# EAGLE library part AT-XMEGA-XXA4-AU (library harp timestamp generator)
ATxMega a4 Serie
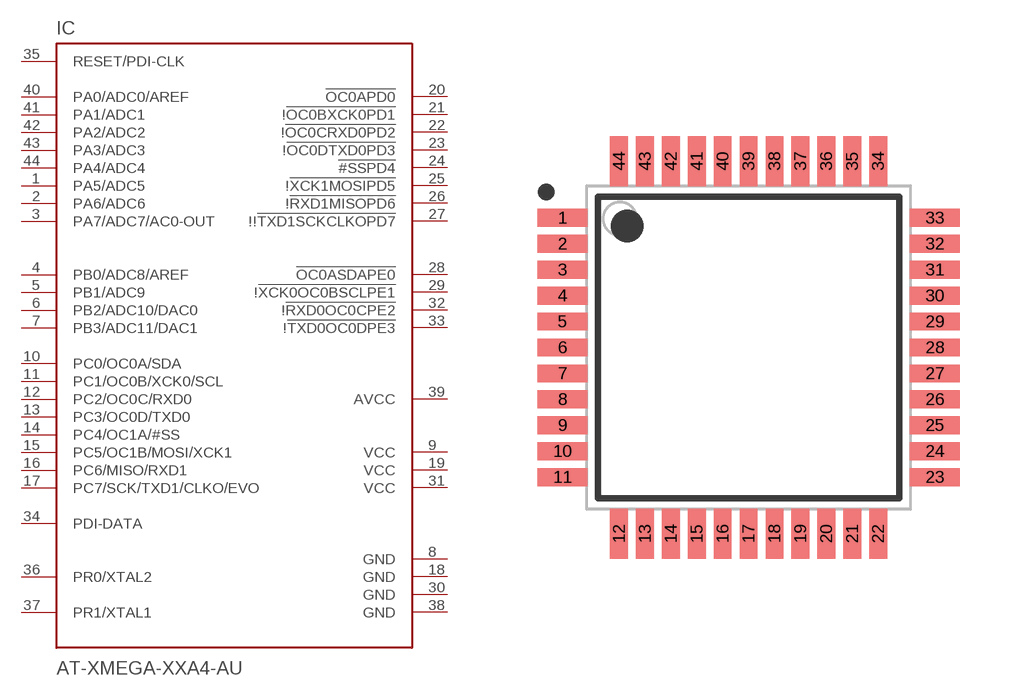
[diagram p5: symbol with the pads of QFP80P1200X1200X120-44N; footprint QFP80P1200X1200X120-44N]

Designator prefix IC

## AT-XMEGA-XXA4-AU  [QFP80P1200X1200X120-44N]
1  PA5/ADC5
2  PA6/ADC6
3  PA7/ADC7/AC0-OUT
4  PB0/ADC8/AREF
5  PB1/ADC9
6  PB2/ADC10/DAC0
7  PB3/ADC11/DAC1
8  GND  pwr
9  VCC  pwr
10  PC0/OC0A/SDA
11  PC1/OC0B/XCK0/SCL
12  PC2/OC0C/RXD0
13  PC3/OC0D/TXD0
14  PC4/OC1A/#SS
15  PC5/OC1B/MOSI/XCK1
16  PC6/MISO/RXD1
17  PC7/SCK/TXD1/CLKO/EVO
18  GND  pwr
19  VCC  pwr
20  !OC0APD0
21  !!OC0BXCK0PD1
22  !!OC0CRXD0PD2
23  !!OC0DTXD0PD3
24  !#SSPD4
25  !!XCK1MOSIPD5
26  !!RXD1MISOPD6
27  !!!TXD1SCKCLKOPD7
28  !OC0ASDAPE0
29  !!XCK0OC0BSCLPE1
30  GND  pwr
31  VCC  pwr
32  !!RXD0OC0CPE2
33  !!TXD0OC0DPE3
34  PDI-DATA
35  RESET/PDI-CLK  in
36  PR0/XTAL2
37  PR1/XTAL1
38  GND  pwr
39  AVCC  pwr
40  PA0/ADC0/AREF
41  PA1/ADC1
42  PA2/ADC2
43  PA3/ADC3
44  PA4/ADC4

## Footprint QFP80P1200X1200X120-44N (pad centres in mm)
TQFP-44
smd 1.55 x 0.55: 1 -5.75,4; 2 -5.75,3.2; 3 -5.75,2.4; 4 -5.75,1.6; 5 -5.75,0.8; 6 -5.75,0; 7 -5.75,-0.8; 8 -5.75,-1.6; 9 -5.75,-2.4; 10 -5.75,-3.2; 11 -5.75,-4; 23 5.75,-4; 24 5.75,-3.2; 25 5.75,-2.4; 26 5.75,-1.6; 27 5.75,-0.8; 28 5.75,0; 29 5.75,0.8; 30 5.75,1.6; 31 5.75,2.4; 32 5.75,3.2; 33 5.75,4
smd 0.55 x 1.55: 12 -4,-5.75; 13 -3.2,-5.75; 14 -2.4,-5.75; 15 -1.6,-5.75; 16 -0.8,-5.75; 17 0,-5.75; 18 0.8,-5.75; 19 1.6,-5.75; 20 2.4,-5.75; 21 3.2,-5.75; 22 4,-5.75; 34 4,5.75; 35 3.2,5.75; 36 2.4,5.75; 37 1.6,5.75; 38 0.8,5.75; 39 0,5.75; 40 -0.8,5.75; 41 -1.6,5.75; 42 -2.4,5.75; 43 -3.2,5.75; 44 -4,5.75